# EAGLE library part TLW-117-05-T-S (library SAMTEC-Txx_By_element14_Batch_1)
CONNECTOR HEADER, 17 WAY, 1ROW
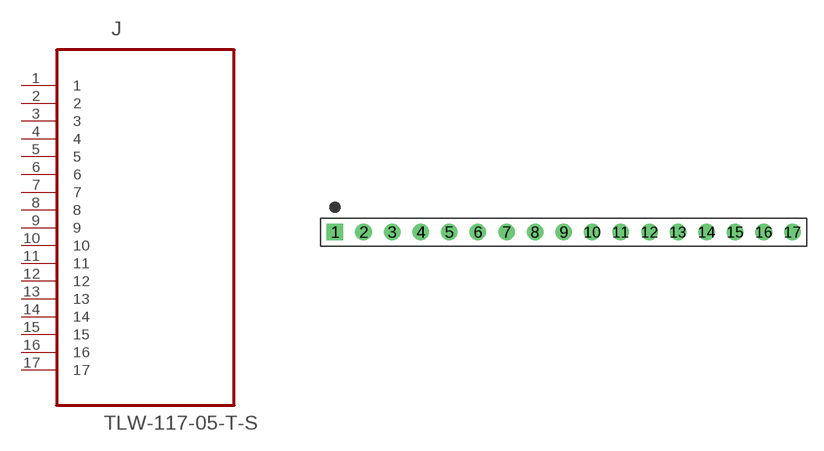
[diagram p231: symbol with the pads of SAMTEC_TLW-117-05-T-S; footprint SAMTEC_TLW-117-05-T-S]

Designator prefix J

## TLW-117-05-T-S (MPN: TLW-117-05-T-S; OC_FARNELL: -; OC_NEWARK: 12P0493; PACKAGE: CONN HEADER 17 POS .100 inch; SUPPLIER: SAMTEC)  [SAMTEC_TLW-117-05-T-S]
1  1  pas
2  2  pas
3  3  pas
4  4  pas
5  5  pas
6  6  pas
7  7  pas
8  8  pas
9  9  pas
10  10  pas
11  11  pas
12  12  pas
13  13  pas
14  14  pas
15  15  pas
16  16  pas
17  17  pas

## Footprint SAMTEC_TLW-117-05-T-S (pad centres in mm)
drill 0.965 square: 1 -40.64,0
drill 0.965: 2 -38.1,0; 3 -35.56,0; 4 -33.02,0; 5 -30.48,0; 6 -27.94,0; 7 -25.4,0; 8 -22.86,0; 9 -20.32,0; 10 -17.78,0; 11 -15.24,0; 12 -12.7,0; 13 -10.16,0; 14 -7.62,0; 15 -5.08,0; 16 -2.54,0; 17 0,0